# Altium schematic symbol library Schlib2.SchLib: 2 symbols
Pins are listed as number, name and electrical type; pins without a type are passive.

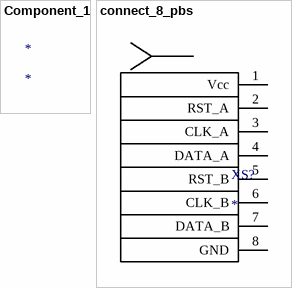
[diagram p0: symbols Component_1 to connect_8_pbs]

## Component_1
designator *

## connect_8_pbs
designator XS?
footprint PBS_8 (2X11-2.0)
pins: 1 Vcc, 2 RST_A, 3 CLK_A, 4 DATA_A, 5 RST_B, 6 CLK_B, 7 DATA_B, 8 GND